# EAGLE library part MOLEX_52808_0671_NON_ZIF (library Atmel - Folienverbinder 6Pol)
Name des Bauteiles:Folienverbinder MOLEX_52808_0671_NON_ZIF Daten:6 pol. , SMD , Folienverbinder Artikelnummer:#für Info´s bitte an Gz wenden. Datenblatt:
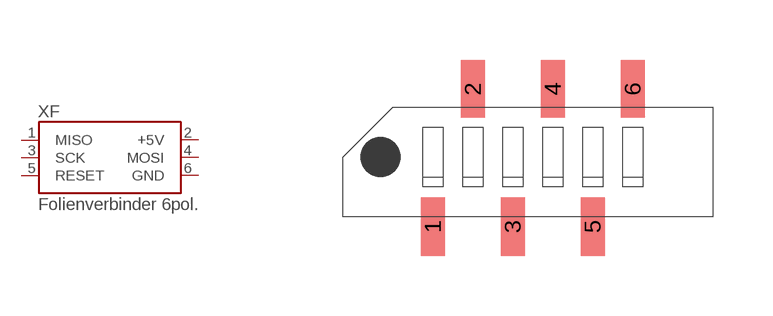
[diagram p0: symbol with the pads of MOLEX_52808-0671_NON_ZIF; footprint MOLEX_52808-0671_NON_ZIF]

Designator prefix XF

## MOLEX_52808_0671_NON_ZIFSMD  [MOLEX_52808-0671_NON_ZIF]
1  MISO
2  +5V  sup
3  SCK
4  MOSI
5  RESET
6  GND  sup

## Footprint MOLEX_52808-0671_NON_ZIF (pad centres in mm)
smd 0.6 x 1.45: 1 -2.5,-1.75; 2 -1.5,1.7; 3 -0.5,-1.75; 4 0.5,1.7; 5 1.5,-1.75; 6 2.5,1.7